# Altium schematic symbol library SB_closed.SchLib: 1 symbol
Pins are listed as number, name and electrical type; pins without a type are passive.

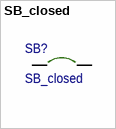
[diagram p0: symbol SB_closed]

## SB_closed
designator SB?
pins: 1, 2